# EAGLE library part MCP3204 (library Arduino Electronic Load)
IC ADC 12BIT 2.7V 4CH SPI 14SOIC
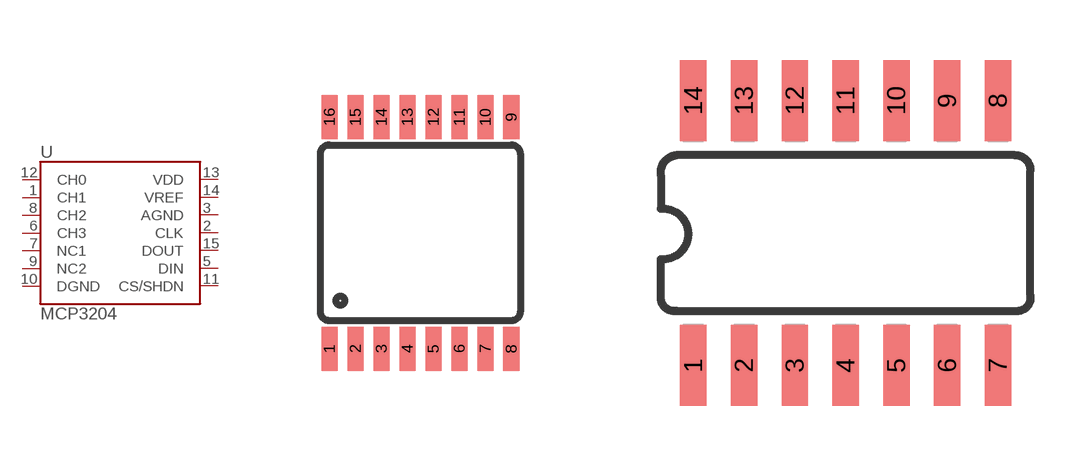
[diagram p3: symbol with the pads of TSSOP-16; footprints TSSOP-16, SOIC-14]

Designator prefix U

## MCP3204CRUZ  [TSSOP-16]
1  CH1
2  CLK
3  AGND
5  DIN
6  CH3
7  NC1
8  CH2
9  NC2
10  DGND
11  CS/SHDN
12  CH0
13  VDD
14  VREF
15  DOUT

## MCP3204CRZ  [SOIC-14]
1  CH0
2  CH1
3  CH2
4  CH3
5  NC1
6  NC2
7  DGND
8  CS/SHDN
9  DIN
10  DOUT
11  CLK
12  AGND
13  VREF
14  VDD

## Footprint TSSOP-16 (pad centres in mm)
smd 0.4 x 1.1: 1 -2.275,-2.9; 2 -1.625,-2.9; 3 -0.975,-2.9; 4 -0.325,-2.9; 5 0.325,-2.9; 6 0.975,-2.9; 7 1.625,-2.9; 8 2.275,-2.9; 9 2.275,2.9; 10 1.625,2.9; 11 0.975,2.9; 12 0.325,2.9; 13 -0.325,2.9; 14 -0.975,2.9; 15 -1.625,2.9; 16 -2.275,2.9

## Footprint SOIC-14 (pad centres in mm)
smd 0.66 x 2.032: 1 -4.445,-3.315; 2 -3.175,-3.315; 3 -1.905,-3.315; 4 -0.635,-3.315; 5 0.635,-3.315; 6 1.905,-3.315; 7 3.175,-3.315; 8 3.175,3.315; 9 1.905,3.315; 10 0.635,3.315; 11 -0.635,3.315; 12 -1.905,3.315; 13 -3.175,3.315; 14 -4.445,3.315